# Altium footprint library ee_453_Schulz.PcbLib: 73 footprints (part 1 of 5)
Each footprint in its own frame and in the unit in brackets; x right, y up, seen from the top. Pads: shape width x height; smd on the part's side, far side on the other; paste and mask are expansions set on the pad; w line width, h text height; cw(c..) or ccw(c..) is an arc to the next point about the centre after c.
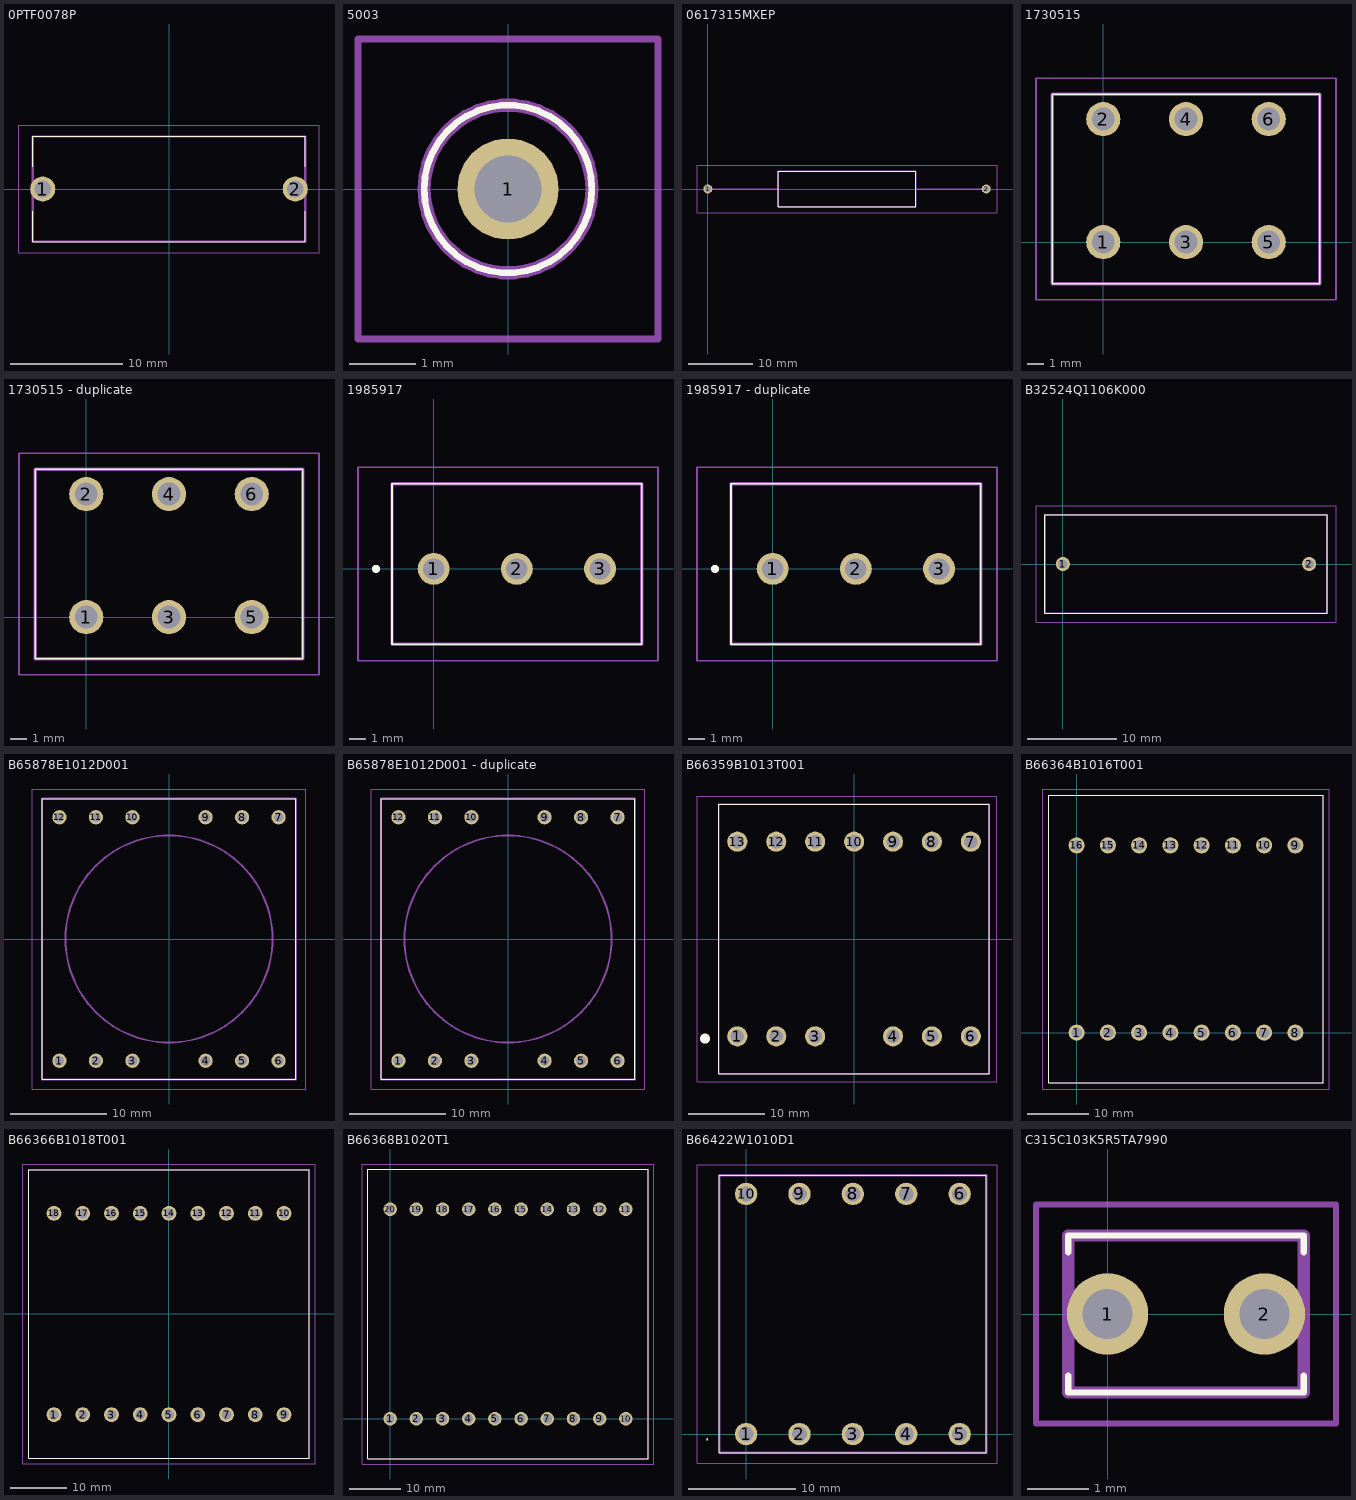
[diagram p0: the footprints below, top view; thin cyan lines are the x and y axes]

## 0PTF0078P [mm]
pads (2):
  round 2.25 hole 1.5: 1(-11.3,0) 2(11.3,0)
Top Overlay:
  lines w0.1: -12.2,-2 -12.2,-4.7 12.2,-4.7 12.2,-2 ; -12.2,2 -12.2,4.7 12.2,4.7 12.2,2
Mechanical 13:
  lines w0.2: -12.2,-4.7 -12.2,4.7 12.2,4.7 12.2,-4.7 -12.2,-4.7
Mechanical 15:
  lines w0.1: -13.425,-5.7 -13.425,5.7 13.425,5.7 13.425,-5.7 -13.425,-5.7
3D body "0PTF0078P.stp": height 11.6, standoff -5, extent -12.2,-4.7 12.2,4.7

## 5003 [mm]
pads (1):
  round 1.53 hole 1.02: 1(0,0)
Top Overlay:
  lines w0.1: -1.27,0 cw(c0,0) 1.27,0 cw(c0,0) -1.27,0
Mechanical 13:
  lines w0.2: -1.27,0 cw(c0,0) 1.27,0 cw(c0,0) -1.27,0
Mechanical 15:
  lines w0.1: -2.27,-2.27 -2.27,2.27 ; -2.27,-2.27 2.27,-2.27 ; -2.27,-2.27 -2.27,2.27 ; -2.27,-2.27 2.27,-2.27 ; -2.27,2.27 2.27,2.27 ; -2.27,2.27 2.27,2.27 ; 2.27,-2.27 2.27,2.27 ; 2.27,-2.27 2.27,2.27
3D body "5003.stp": height 4.67, standoff -5, extent -1.27,-1.27 1.27,1.27

## 0617315MXEP [mm]
pads (2):
  round 1.4 hole 0.9: 1(0,0) 2(43.5,0)
Top Overlay:
  lines w0.1: 11,-2.75 32.5,-2.75 32.5,2.75 11,2.75 11,-2.75
Mechanical 13:
  lines w0.2: 0,0 11,0 ; 32.5,0 43.5,0 ; 11,-2.75 32.5,-2.75 32.5,2.75 11,2.75 11,-2.75
Mechanical 15:
  lines w0.1: -1.7,-3.75 45.2,-3.75 45.2,3.75 -1.7,3.75 -1.7,-3.75

## 1730515 [mm]
pads (6):
  round 2.1 hole 1.4: 1(0,0) 2(0,7.55) 3(5.08,0) 4(5.08,7.55) 5(10.16,0) 6(10.16,7.55)
Top Overlay:
  lines w0.1: -3.13,-2.55 -3.13,9.07 13.29,9.07 13.29,-2.55 -3.13,-2.55
Mechanical 13:
  lines w0.2: -3.13,-2.55 -3.13,9.07 13.29,9.07 13.29,-2.55 -3.13,-2.55
Mechanical 15:
  lines w0.1: -4.13,-3.55 -4.13,10.07 14.29,10.07 14.29,-3.55 -4.13,-3.55
3D body "1730515.stp": height 18.1, standoff -5, extent -3.13,-2.55 13.29,9.07

## 1730515 - duplicate [mm]
pads (6):
  round 2.1 hole 1.4: 1(0,0) 2(0,7.55) 3(5.08,0) 4(5.08,7.55) 5(10.16,0) 6(10.16,7.55)
Top Overlay:
  lines w0.1: -3.13,-2.55 13.29,-2.55 13.29,9.07 -3.13,9.07 -3.13,-2.55
Mechanical 13:
  lines w0.2: -3.13,-2.55 13.29,-2.55 13.29,9.07 -3.13,9.07 -3.13,-2.55
Mechanical 15:
  lines w0.1: -4.13,-3.55 14.29,-3.55 14.29,10.07 -4.13,10.07 -4.13,-3.55
3D body "1730515.stp": height 18.1, standoff -5, extent -3.13,-2.55 13.29,9.07

## 1985917 [mm]
pads (3):
  round 1.95 hole 1.3: 1(0,0) 2(5.08,0) 3(10.16,0)
Top Overlay:
  lines w0.1: -2.54,-4.6 12.7,-4.6 12.7,5.2 -2.54,5.2 -2.54,-4.6
  lines w0.3: -3.62,0 cw(c-3.52,0) -3.42,0 cw(c-3.52,0) -3.62,0
Mechanical 13:
  lines w0.2: -2.54,-4.6 12.7,-4.6 12.7,5.2 -2.54,5.2 -2.54,-4.6
Mechanical 15:
  lines w0.1: -4.62,-5.6 13.7,-5.6 13.7,6.2 -4.62,6.2 -4.62,-5.6
3D body "1985917.stp": height 14.05, standoff -5, extent -2.54,-4.6 12.7,5.2

## 1985917 - duplicate [mm]
pads (3):
  round 1.95 hole 1.3: 1(0,0) 2(5.08,0) 3(10.16,0)
Top Overlay:
  lines w0.1: -2.54,-4.6 12.7,-4.6 12.7,5.2 -2.54,5.2 -2.54,-4.6
  lines w0.3: -3.62,0 cw(c-3.52,0) -3.42,0 cw(c-3.52,0) -3.62,0
Mechanical 13:
  lines w0.2: -2.54,-4.6 12.7,-4.6 12.7,5.2 -2.54,5.2 -2.54,-4.6
Mechanical 15:
  lines w0.1: -4.62,-5.6 13.7,-5.6 13.7,6.2 -4.62,6.2 -4.62,-5.6
3D body "1985917.stp": height 14.05, standoff -5, extent -2.54,-4.6 12.7,5.2

## B32524Q1106K000 [mm]
pads (2):
  round 1.575 hole 1.05: 1(0,0) 2(27.5,0)
Top Overlay:
  lines w0.1: -2,-5.5 29.5,-5.5 29.5,5.5 -2,5.5 -2,-5.5
Mechanical 13:
  lines w0.2: -2,-5.5 29.5,-5.5 29.5,5.5 -2,5.5 -2,-5.5
Mechanical 15:
  lines w0.1: -3,-6.5 30.5,-6.5 30.5,6.5 -3,6.5 -3,-6.5
3D body "B32524Q1106K000.stp": height 21.1, standoff -5, extent -2,-5.5 29.5,5.5

## B65878E1012D001 [mm]
pads (12):
  round 1.5 hole 1: 1(-11.43,-12.7) 2(-7.62,-12.7) 3(-3.81,-12.7) 4(3.81,-12.7) 5(7.62,-12.7) 6(11.43,-12.7) 7(11.43,12.7) 8(7.62,12.7) 9(3.81,12.7) 10(-3.81,12.7) 11(-7.62,12.7) 12(-11.43,12.7)
Top Overlay:
  lines w0.1: -13.25,-14.65 -13.25,14.65 13.25,14.65 13.25,-14.65 -13.25,-14.65
Mechanical 13:
  lines w0.2: -13.25,-14.65 -13.25,14.65 13.25,14.65 13.25,-14.65 -13.25,-14.65 ; -10.8,0 ccw(c0,0) 10.8,0 ccw(c0,0) -10.8,0
Mechanical 15:
  lines w0.1: -14.25,-15.65 -14.25,15.65 14.25,15.65 14.25,-15.65 -14.25,-15.65
3D body "B65878E1012D001.stp": height 29.4, standoff -5, extent -13.25,-14.65 13.25,14.65

## B65878E1012D001 - duplicate [mm]
pads (12):
  round 1.5 hole 1: 1(-11.43,-12.7) 2(-7.62,-12.7) 3(-3.81,-12.7) 4(3.81,-12.7) 5(7.62,-12.7) 6(11.43,-12.7) 7(11.43,12.7) 8(7.62,12.7) 9(3.81,12.7) 10(-3.81,12.7) 11(-7.62,12.7) 12(-11.43,12.7)
Top Overlay:
  lines w0.1: -13.25,-14.65 13.25,-14.65 13.25,14.65 -13.25,14.65 -13.25,-14.65
Mechanical 13:
  lines w0.2: -13.25,-14.65 13.25,-14.65 13.25,14.65 -13.25,14.65 -13.25,-14.65 ; -10.8,0 cw(c0,0) 10.8,0 cw(c0,0) -10.8,0
Mechanical 15:
  lines w0.1: -14.25,-15.65 14.25,-15.65 14.25,15.65 -14.25,15.65 -14.25,-15.65
3D body "B65878E1012D001.stp": height 29.4, standoff -5, extent -13.25,-14.65 13.25,14.65

## B66359B1013T001 [mm]
pads (13):
  round 2.625 hole 1.75: 1(-15.24,-12.7) 2(-10.16,-12.7) 3(-5.08,-12.7) 4(5.08,-12.7) 5(10.16,-12.7) 6(15.24,-12.7) 7(15.24,12.7) 8(10.16,12.7) 9(5.08,12.7) 10(0,12.7) 11(-5.08,12.7) 12(-10.16,12.7) 13(-15.24,12.7)
Top Overlay:
  lines w0.1: -17.65,-17.6 -17.65,17.6 17.65,17.6 17.65,-17.6 -17.65,-17.6
  lines w1.2: -19.5,-13 ccw(c-19.45,-13) -19.4,-13 ccw(c-19.45,-13) -19.5,-13
Mechanical 13:
  lines w0.2: -17.65,-17.6 -17.65,17.6 17.65,17.6 17.65,-17.6 -17.65,-17.6
Mechanical 15:
  lines w0.1: -20.5,-18.6 -20.5,18.6 18.65,18.6 18.65,-18.6 -20.5,-18.6
3D body "B66359B1013T001.stp": height 25, standoff -5, extent -17.65,-17.6 17.65,17.6

## B66364B1016T001 [mm]
pads (16):
  round 2.625 hole 1.75: 1(0,0) 2(5.08,0) 3(10.16,0) 4(15.24,0) 5(20.32,0) 6(25.4,0) 7(30.48,0) 8(35.56,0) 9(35.56,30.48) 10(30.48,30.48) 11(25.4,30.48) 12(20.32,30.48) 13(15.24,30.48) 14(10.16,30.48) 15(5.08,30.48) 16(0,30.48)
Top Overlay:
  lines w0.1: -4.52,-8.16 -4.52,38.64 40.08,38.64 40.08,-8.16 -4.52,-8.16
Mechanical 13:
  lines w0.2: -4.52,-8.16 -4.52,38.64 40.08,38.64 40.08,-8.16 -4.52,-8.16
Mechanical 15:
  lines w0.1: -5.52,-9.16 -5.52,39.64 41.08,39.64 41.08,-9.16 -5.52,-9.16
3D body "B66364B1016T001.stp": height 35.5, standoff -5, extent -4.52,-8.16 40.08,38.64

## B66366B1018T001 [mm]
pads (18):
  round 2.625 hole 1.75: 1(-20.32,-17.78) 2(-15.24,-17.78) 3(-10.16,-17.78) 4(-5.08,-17.78) 5(0,-17.78) 6(5.08,-17.78) 7(10.16,-17.78) 8(15.24,-17.78) 9(20.32,-17.78) 10(20.32,17.78) 11(15.24,17.78) 12(10.16,17.78) 13(5.08,17.78) 14(0,17.78) 15(-5.08,17.78) 16(-10.16,17.78) 17(-15.24,17.78) 18(-20.32,17.78)
Top Overlay:
  lines w0.1: -24.8,-25.5 -24.8,25.5 24.8,25.5 24.8,-25.5 -24.8,-25.5
Mechanical 13:
  lines w0.2: -24.8,-25.5 -24.8,25.5 24.8,25.5 24.8,-25.5 -24.8,-25.5
Mechanical 15:
  lines w0.1: -25.8,-26.5 -25.8,26.5 25.8,26.5 25.8,-26.5 -25.8,-26.5
3D body "B66366B1018T001.stp": height 38.4, standoff -5, extent -24.8,-25.5 24.8,25.5

## B66368B1020T1 [mm]
pads (20):
  round 2.625 hole 1.75: 1(0,0) 2(5.08,0) 3(10.16,0) 4(15.24,0) 5(20.32,0) 6(25.4,0) 7(30.48,0) 8(35.56,0) 9(40.64,0) 10(45.72,0) 11(45.72,40.64) 12(40.64,40.64) 13(35.56,40.64) 14(30.48,40.64) 15(25.4,40.64) 16(20.32,40.64) 17(15.24,40.64) 18(10.16,40.64) 19(5.08,40.64) 20(0,40.64)
Top Overlay:
  lines w0.1: -4.39,-7.78 50.11,-7.78 50.11,48.42 -4.39,48.42 -4.39,-7.78
Mechanical 13:
  lines w0.2: -4.39,-7.78 50.11,-7.78 50.11,48.42 -4.39,48.42 -4.39,-7.78
Mechanical 15:
  lines w0.1: -5.39,-8.78 51.11,-8.78 51.11,49.42 -5.39,49.42 -5.39,-8.78
3D body "B66368B1020T1.stp": height 40.9, standoff -5, extent -4.39,-7.78 50.11,48.42

## B66422W1010D1 [mm]
pads (10):
  round 2.1 hole 1.4: 1(0,0) 2(5,0) 3(10,0) 4(15,0) 5(20,0) 6(20,22.5) 7(15,22.5) 8(10,22.5) 9(5,22.5) 10(0,22.5)
Top Overlay:
  lines w0.1: -3.7,-0.5 ccw(c-3.65,-0.5) -3.6,-0.5 ccw(c-3.65,-0.5) -3.7,-0.5 ; -2.5,-1.75 22.5,-1.75 22.5,24.25 -2.5,24.25 -2.5,-1.75
Mechanical 13:
  lines w0.2: -2.5,-1.75 22.5,-1.75 22.5,24.25 -2.5,24.25 -2.5,-1.75
Mechanical 15:
  lines w0.1: -4.6,-2.75 23.5,-2.75 23.5,25.25 -4.6,25.25 -4.6,-2.75
3D body "B66422W1010D1.stp": height 12, standoff -5, extent -2.5,-1.75 22.5,24.25

## C315C103K5R5TA7990 [mm]
pads (2):
  round 1.316 hole 0.81: 1(0,0) 2(2.54,0)
Top Overlay:
  lines w0.1: -0.635,-1 -0.635,-1.27 3.175,-1.27 3.175,-1 ; -0.635,1 -0.635,1.27 3.175,1.27 3.175,1
Mechanical 13:
  lines w0.2: -0.635,-1.27 3.175,-1.27 3.175,1.27 -0.635,1.27 -0.635,-1.27
Mechanical 15:
  lines w0.1: -1.158,-1.77 3.698,-1.77 3.698,1.77 -1.158,1.77 -1.158,-1.77
3D body "C315C103K5R5TA7990.stp": height 4.76, standoff -5, extent -0.635,-1.27 3.175,1.27